# EAGLE library part STM32F10XVXHX (library stm32)
ST STM32F 100 pin BGA
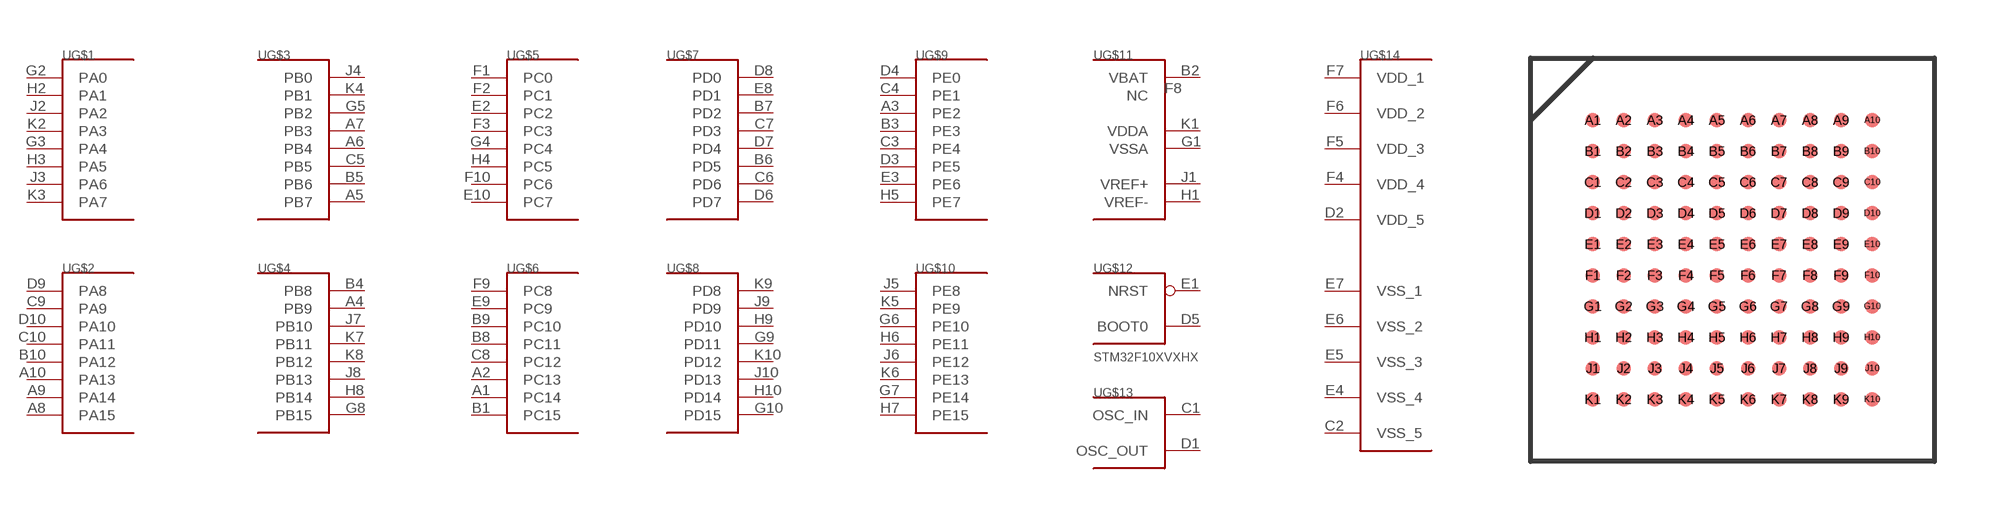
[diagram p5: symbol with the pads of LFBGA100; footprint LFBGA100]

Designator prefix U; gates G$1=PORT_A_L G$2=PORT_A_H G$3=PORT_B_L G$4=PORT_B_H G$5=PORT_C_L G$6=PORT_C_H G$7=PORT_D_L G$8=PORT_D_H G$9=PORT_E_L G$10=PORT_E_H G$11=BAT_AN_L G$12=BOOT_RST G$13=OSC G$14=VCC_VSS_L

## STM32F10XVXHX  [LFBGA100]
A1  G$6:PC14
A2  G$6:PC13
A3  G$9:PE2
A4  G$4:PB9
A5  G$3:PB7
A6  G$3:PB4
A7  G$3:PB3
A8  G$2:PA15
A9  G$2:PA14
A10  G$2:PA13
B1  G$6:PC15
B2  G$11:VBAT  pwr
B3  G$9:PE3
B4  G$4:PB8
B5  G$3:PB6
B6  G$7:PD5
B7  G$7:PD2
B8  G$6:PC11
B9  G$6:PC10
B10  G$2:PA12
C1  G$13:OSC_IN  in
C2  G$14:VSS_5  pwr
C3  G$9:PE4
C4  G$9:PE1
C5  G$3:PB5
C6  G$7:PD6
C7  G$7:PD3
C8  G$6:PC12
C9  G$2:PA9
C10  G$2:PA11
D1  G$13:OSC_OUT  out
D2  G$14:VDD_5  pwr
D3  G$9:PE5
D4  G$9:PE0
D5  G$12:BOOT0  in
D6  G$7:PD7
D7  G$7:PD4
D8  G$7:PD0
D9  G$2:PA8
D10  G$2:PA10
E1  G$12:NRST  in
E2  G$5:PC2
E3  G$9:PE6
E4  G$14:VSS_4  pwr
E5  G$14:VSS_3  pwr
E6  G$14:VSS_2  pwr
E7  G$14:VSS_1  pwr
E8  G$7:PD1
E9  G$6:PC9
E10  G$5:PC7
F1  G$5:PC0
F2  G$5:PC1
F3  G$5:PC3
F4  G$14:VDD_4  pwr
F5  G$14:VDD_3  pwr
F6  G$14:VDD_2  pwr
F7  G$14:VDD_1  pwr
F8  G$11:NC  nc
F9  G$6:PC8
F10  G$5:PC6
G1  G$11:VSSA  pwr
G2  G$1:PA0
G3  G$1:PA4
G4  G$5:PC4
G5  G$3:PB2
G6  G$10:PE10
G7  G$10:PE14
G8  G$4:PB15
G9  G$8:PD11
G10  G$8:PD15
H1  G$11:VREF-  in
H2  G$1:PA1
H3  G$1:PA5
H4  G$5:PC5
H5  G$9:PE7
H6  G$10:PE11
H7  G$10:PE15
H8  G$4:PB14
H9  G$8:PD10
H10  G$8:PD14
J1  G$11:VREF+  in
J2  G$1:PA2
J3  G$1:PA6
J4  G$3:PB0
J5  G$10:PE8
J6  G$10:PE12
J7  G$4:PB10
J8  G$4:PB13
J9  G$8:PD9
J10  G$8:PD13
K1  G$11:VDDA  pwr
K2  G$1:PA3
K3  G$1:PA7
K4  G$3:PB1
K5  G$10:PE9
K6  G$10:PE13
K7  G$4:PB11
K8  G$4:PB12
K9  G$8:PD8
K10  G$8:PD12

## Footprint LFBGA100 (pad centres in mm)
LFBGA100 0.8mm pictch bga
smd 0.37 x 0.37: A1 0,7.2; A2 0.8,7.2; A3 1.6,7.2; A4 2.4,7.2; A5 3.2,7.2; A6 4,7.2; A7 4.8,7.2; A8 5.6,7.2; A9 6.4,7.2; A10 7.2,7.2; B1 0,6.4; B2 0.8,6.4; B3 1.6,6.4; B4 2.4,6.4; B5 3.2,6.4; B6 4,6.4; B7 4.8,6.4; B8 5.6,6.4; B9 6.4,6.4; B10 7.2,6.4; C1 0,5.6; C2 0.8,5.6; C3 1.6,5.6; C4 2.4,5.6; C5 3.2,5.6; C6 4,5.6; C7 4.8,5.6; C8 5.6,5.6; C9 6.4,5.6; C10 7.2,5.6; D1 0,4.8; D2 0.8,4.8; D3 1.6,4.8; D4 2.4,4.8; D5 3.2,4.8; D6 4,4.8; D7 4.8,4.8; D8 5.6,4.8; D9 6.4,4.8; D10 7.2,4.8; E1 0,4; E2 0.8,4; E3 1.6,4; E4 2.4,4; E5 3.2,4; E6 4,4; E7 4.8,4; E8 5.6,4; E9 6.4,4; E10 7.2,4; F1 0,3.2; F2 0.8,3.2; F3 1.6,3.2; F4 2.4,3.2; F5 3.2,3.2; F6 4,3.2; F7 4.8,3.2; F8 5.6,3.2; F9 6.4,3.2; F10 7.2,3.2; G1 0,2.4; G2 0.8,2.4; G3 1.6,2.4; G4 2.4,2.4; G5 3.2,2.4; G6 4,2.4; G7 4.8,2.4; G8 5.6,2.4; G9 6.4,2.4; G10 7.2,2.4; H1 0,1.6; H2 0.8,1.6; H3 1.6,1.6; H4 2.4,1.6; H5 3.2,1.6; H6 4,1.6; H7 4.8,1.6; H8 5.6,1.6; H9 6.4,1.6; H10 7.2,1.6; J1 0,0.8; J2 0.8,0.8; J3 1.6,0.8; J4 2.4,0.8; J5 3.2,0.8; J6 4,0.8; J7 4.8,0.8; J8 5.6,0.8; J9 6.4,0.8; J10 7.2,0.8; K1 0,0; K2 0.8,0; K3 1.6,0; K4 2.4,0; K5 3.2,0; K6 4,0; K7 4.8,0; K8 5.6,0; K9 6.4,0; K10 7.2,0